# Altium schematic symbol library STM32_SCH_LIB.SchLib: 5 symbols
Pins are listed as number, name and electrical type; pins without a type are passive.

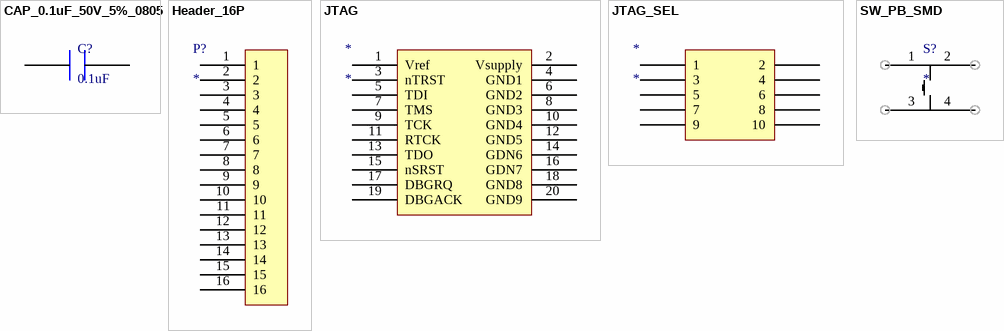
[diagram p0: symbols CAP_0.1uF_50V_5%_0805 to SW_PB_SMD]

## CAP_0.1uF_50V_5%_0805
designator C?, comment 0.1uF
50V 100nF X7R ±10% 0805 Multilayer Ceramic Capacitors MLCC - SMD/SMT ROHS; Manufaturer: Samsung Electro-Mechanics; Manufaturing Part Number: CL21B104KBCNFNC; Case/Package: 0805; Supplier-1: JLCPCB; Supplier Part Number-1: C318718
pins: 0, 1

## Header_16P
designator P?
footprint Header Pin 16 (Footprint not found)
pins: 1, 2, 3, 4, 5, 6, 7, 8, 9, 10, 11, 12, 13, 14, 15, 16

## JTAG
designator *
pins: 1 Vref, 2 Vsupply, 3 nTRST, 4 GND1, 5 TDI, 6 GND2, 7 TMS, 8 GND3, 9 TCK, 10 GND4, 11 RTCK, 12 GND5, 13 TDO, 14 GDN6, 15 nSRST, 16 GDN7, 17 DBGRQ, 18 GND8, 19 DBGACK, 20 GND9

## JTAG_SEL
designator *
pins: ?1 1, ?2 2, ?3 3, ?4 4, ?5 5, ?6 6, ?7 7, ?8 8, ?9 9, ?10 10

## SW_PB_SMD
designator S?
NO J pin 4.2mm 100MΩ 500000 16V 2.55N 3.2mm -40℃~+90℃ 2.5mm Black Oval button Brick nogging SPST SMD Tactile Switches ROHS; Manufaturer: ALPSALPINE; Manufaturing Part Number: SKRPASE010; Case/Package: SMD; Supplier-1: JLCPCB; Supplier Part Number-1: C470427
pins: 1, 2, 3 2, 4 2